# Altium integrated library MergenElektronik_Communications_UARTTechnologies.IntLib: 1 symbol
Pins are listed as number, name and electrical type; pins without a type are passive.

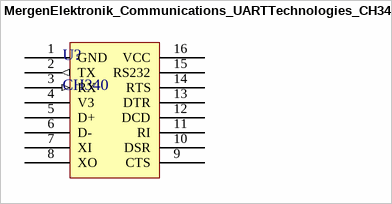
[diagram p0: symbol MergenElektronik_Communications_UARTTechnologies_CH340]

## MergenElektronik_Communications_UARTTechnologies_CH340
designator U?, comment CH340
Mergen Elektronik - Communications - UART Technologies - CH340; Manufacturer: WCH; Operating Supply Voltage: 3.3V 5V; Baud Rate: 50bps up to 2Mbps; Voltage Rated: 3.3V & 5V; Model: UART; Mounting Type: Surface Mount; Package: --; Temperature: -40ºC up to+85ºC; Value: CH340
footprint MergenElektronik_Communications_UARTTechnologies_CH340 (CH340)
pins: 1 GND (power), 2 TX (out), 3 RX (in), 4 V3, 5 D+, 6 D-, 7 XI, 8 XO, 9 CTS, 10 DSR, 11 RI, 12 DCD, 13 DTR, 14 RTS, 15 RS232, 16 VCC (power)